# EAGLE library part DISP_LCD_2.8IN_240X320_50PIN (library Tristan_Robitaille's_Library)
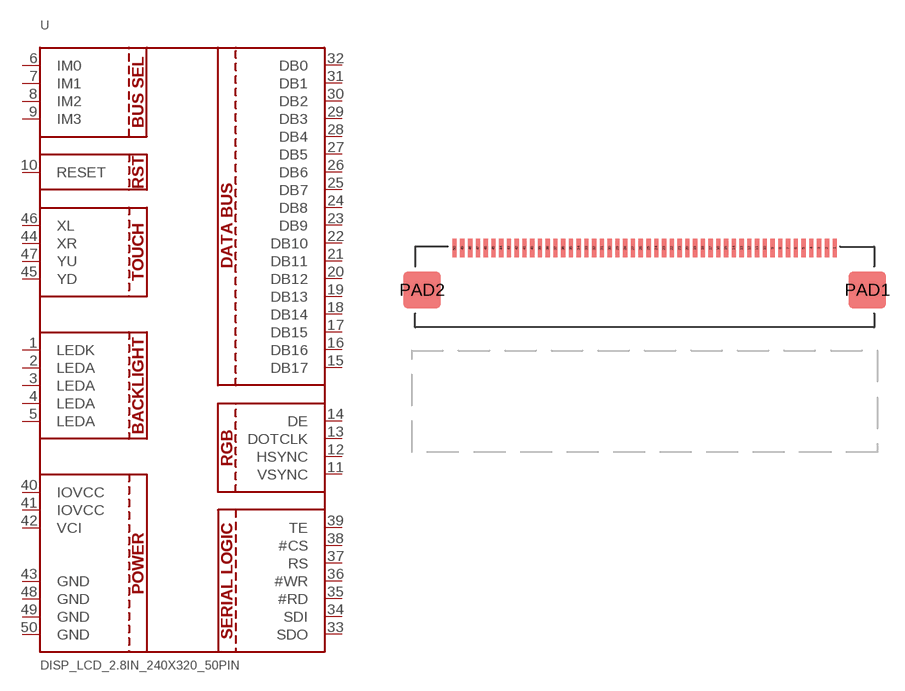
[diagram p25: symbol with the pads of TFT_2.83IN_240X320_50PIN; footprint TFT_2.83IN_240X320_50PIN]

Designator prefix -

## DISP_LCD_2.8IN_240X320_50PIN (MANF: MI0283QT-11 LCD MODULE; MANF#: MI0283QT-11)  [TFT_2.83IN_240X320_50PIN]
1  LEDK
2  LEDA
3  LEDA
4  LEDA
5  LEDA
6  IM0
7  IM1
8  IM2
9  IM3
10  RESET
11  VSYNC
12  HSYNC
13  DOTCLK
14  DE
15  DB17
16  DB16
17  DB15
18  DB14
19  DB13
20  DB12
21  DB11
22  DB10
23  DB9
24  DB8
25  DB7
26  DB6
27  DB5
28  DB4
29  DB3
30  DB2
31  DB1
32  DB0
33  SDO
34  SDI
35  #RD
36  #WR
37  RS
38  #CS
39  TE
40  IOVCC
41  IOVCC
42  VCI
43  GND
44  XR
45  YD
46  XL
47  YU
48  GND
49  GND
50  GND

## Footprint TFT_2.83IN_240X320_50PIN (pad centres in mm)
smd 0.275 x 1.2: 1 12.25,2.31; 2 11.75,2.31; 3 11.25,2.31; 4 10.75,2.31; 5 10.25,2.31; 6 9.75,2.31; 7 9.25,2.31; 8 8.75,2.31; 9 8.25,2.31; 10 7.75,2.31; 11 7.25,2.31; 12 6.75,2.31; 13 6.25,2.31; 14 5.75,2.31; 15 5.25,2.31; 16 4.75,2.31; 17 4.25,2.31; 18 3.75,2.31; 19 3.25,2.31; 20 2.75,2.31; 21 2.25,2.31; 22 1.75,2.31; 23 1.25,2.31; 24 0.75,2.31; 25 0.25,2.31; 26 -0.25,2.31; 27 -0.75,2.31; 28 -1.25,2.31; 29 -1.75,2.31; 30 -2.25,2.31; 31 -2.75,2.31; 32 -3.25,2.31; 33 -3.75,2.31; 34 -4.25,2.31; 35 -4.75,2.31; 36 -5.25,2.31; 37 -5.75,2.31; 38 -6.25,2.31; 39 -6.75,2.31; 40 -7.25,2.31; 41 -7.75,2.31; 42 -8.25,2.31; 43 -8.75,2.31; 44 -9.25,2.31; 45 -9.75,2.31; 46 -10.25,2.31; 47 -10.75,2.31; 48 -11.25,2.31; 49 -11.75,2.31; 50 -12.25,2.31
smd 2.4 x 2.4: PAD1 14.35,-0.39; PAD2 -14.35,-0.39